# Altium schematic symbol library power-ic-module.SchLib: 7 symbols
Pins are listed as number, name and electrical type; pins without a type are passive.

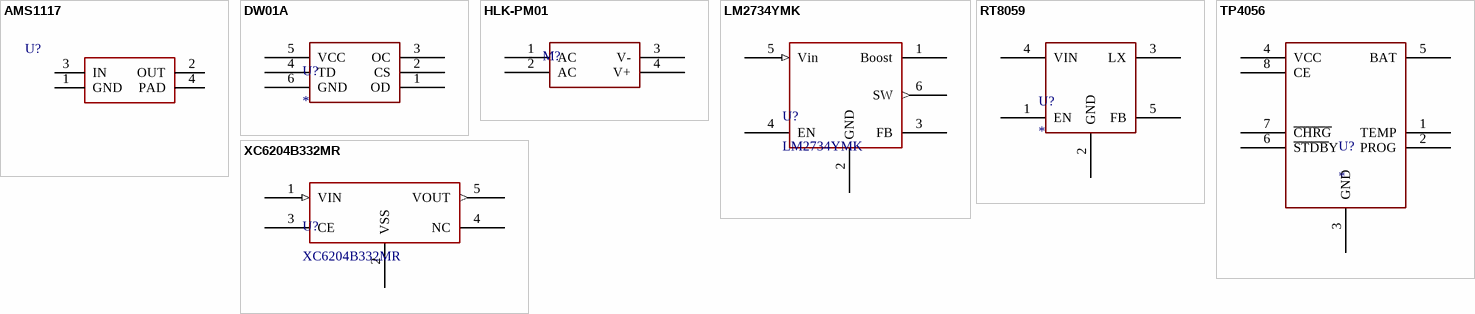
[diagram p0: symbols AMS1117 to XC6204B332MR]

## AMS1117
designator U?
Available in 1.8V, 2.5V, 2.85V, 3.3V, 5V, and  Adjustable Versions; Local Supplier: thegioiic; Local Supplier Part Number: *; Local Supplier Link: https://www.thegioiic.com/products/ams1117-3-3v
footprint SOT223 (SOT223, 4-Leads, Body 6.5x3.5mm, Pitch 2.3mm, Lead Span 7mm, IPC Medium Density)
pins: 1 GND, 2 OUT, 3 IN, 4 PAD

## DW01A
designator U?
Battery protection IC
footprint SOT-23-6
pins: 1 OD, 2 CS, 3 OC, 4 TD, 5 VCC, 6 GND

## HLK-PM01
designator M?
220VAC-5VDC ultra-compact power module
footprint HLK-PM01
pins: 1 AC, 2 AC, 3 V-, 4 V+

## LM2734YMK
designator U?
No Description Available; Vendor: Texas Instruments; Built_By: EMA_UL_Team; SourceLibrary: National_2011-09-26; Manufacturer_Part_Number: LM2734YMK; Copyright: Copyright (C) 2018 Accelerated Designs. All rights reserved; RefDes: RefDes; Type: DEV
footprint SOT-23-6-THIN
pins: 1 Boost, 2 GND, 3 FB, 4 EN, 5 Vin (in), 6 SW (out)

## RT8059
designator U?
High efficiency PWM step-down DC/DC converter
footprint SOT-23-5
pins: 1 EN, 2 GND, 3 LX, 4 VIN, 5 FB

## TP4056
designator U?
Linear charger for single cell / lithium-ion batteries
footprint SOP8
pins: 1 TEMP, 2 PROG, 3 GND, 4 VCC, 5 BAT, 6 ~{STDB}Y, 7 ~{CHRG}, 8 CE

## XC6204B332MR
designator U?
LDO regulators; Vendor: Torex Semiconductor; Built_By: EMA_UL_Team; SourceLibrary: Torex_2016-07-05_1; Manufacturer_Part_Number: XC6204B332MR; Copyright: Copyright (C) 2018 Accelerated Designs. All rights reserved; RefDes: RefDes; Type: DEV; Local Supplier: thegioiic; Local Supplier Part Number: *; Local Supplier Link: https://www.thegioiic.com/products/xc6204b332mr-g-ic-on-ap-3-3v-150ma
footprint XC6204/05_SOT-00
pins: 1 VIN (in), 2 VSS, 3 CE, 4 NC, 5 VOUT (out)